# EAGLE library part UBW32_PKG (library SchmalzHausPublic)
UBW32 board from SparkFun (www.sparkfun.com) Designed by Brian Schmalz See http://www.schmalzhaus.com/UBW32 for more information Released under Creative Commons Attribution license.
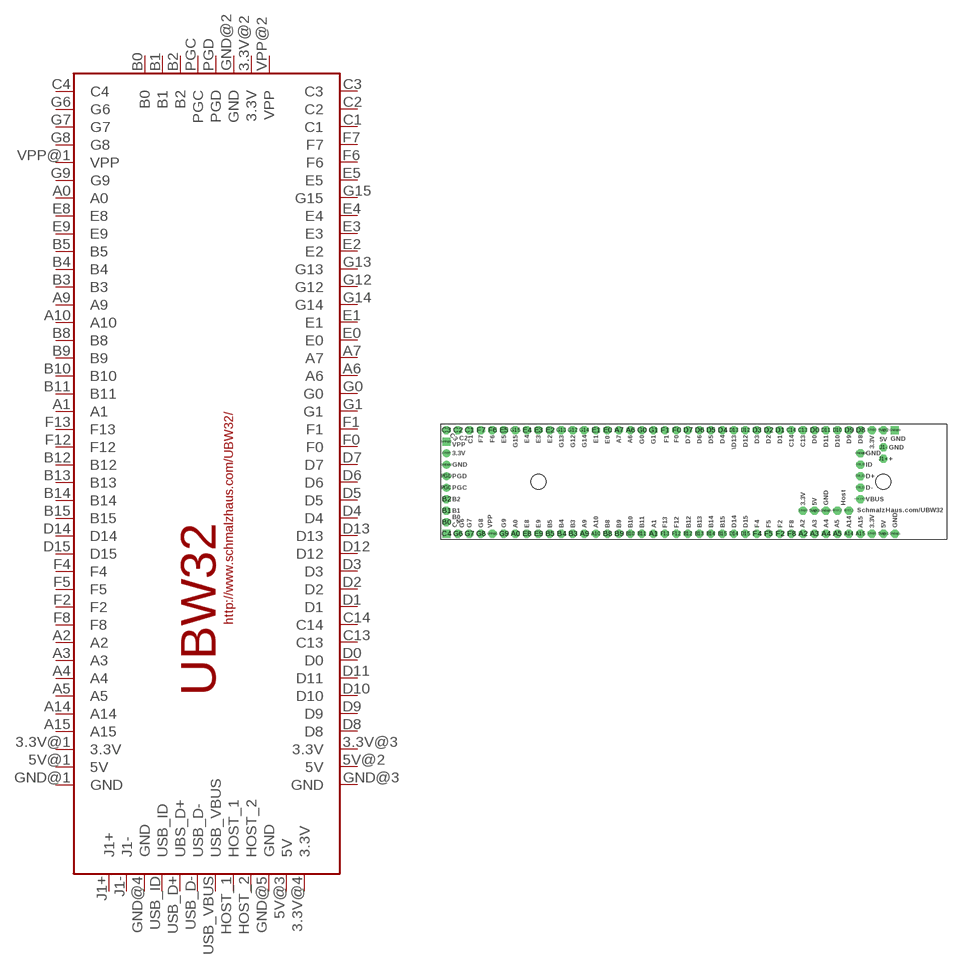
[diagram p0: symbol with the pads of UBW32BOARD; footprint UBW32BOARD]

Designator prefix -

## UBW32_PKG  [UBW32BOARD]
3.3V@1  3.3V
3.3V@2  3.3V
3.3V@3  3.3V
3.3V@4  3.3V
5V@1  5V
5V@2  5V
5V@3  5V
A0  A0
A1  A1
A2  A2
A3  A3
A4  A4
A5  A5
A6  A6
A7  A7
A9  A9
A10  A10
A14  A14
A15  A15
B0  B0
B1  B1
B2  B2
B3  B3
B4  B4
B5  B5
B8  B8
B9  B9
B10  B10
B11  B11
B12  B12
B13  B13
B14  B14
B15  B15
C1  C1
C2  C2
C3  C3
C4  C4
C13  C13
C14  C14
D0  D0
D1  D1
D2  D2
D3  D3
D4  D4
D5  D5
D6  D6
D7  D7
D8  D8
D9  D9
D10  D10
D11  D11
D12  D12
D13  D13
D14  D14
D15  D15
E0  E0
E1  E1
E2  E2
E3  E3
E4  E4
E5  E5
E8  E8
E9  E9
F0  F0
F1  F1
F2  F2
F4  F4
F5  F5
F6  F6
F7  F7
F8  F8
F12  F12
F13  F13
G0  G0
G1  G1
G6  G6
G7  G7
G8  G8
G9  G9
G12  G12
G13  G13
G14  G14
G15  G15
GND@1  GND
GND@2  GND
GND@3  GND
GND@4  GND
GND@5  GND
HOST_1  HOST_1
HOST_2  HOST_2
J1+  J1+
J1-  J1-
PGC  PGC
PGD  PGD
USB_D+  UBS_D+
USB_D-  USB_D-
USB_ID  USB_ID
USB_VBUS  USB_VBUS
VPP@1  VPP
VPP@2  VPP

## Footprint UBW32BOARD (pad centres in mm)
drill 0.8 pad 1.778 octagon: 3.3V@1 95.25,1.27; 3.3V@3 95.25,24.13; 3.3V@4 80.01,6.35; 5V@1 97.79,1.27; 5V@2 97.79,24.13; 5V@3 82.55,6.35; A0 16.51,1.27; A1 46.99,1.27; A2 80.01,1.27; A3 82.55,1.27; A4 85.09,1.27; A5 87.63,1.27; A6 41.91,24.13; A7 39.37,24.13; A9 31.75,1.27; A10 34.29,1.27; A14 90.17,1.27; A15 92.71,1.27; B0 1.27,3.81; B1 1.27,6.35; B2 1.27,8.89; B3 29.21,1.27; B4 26.67,1.27; B5 24.13,1.27; B8 36.83,1.27; B9 39.37,1.27; B10 41.91,1.27; B11 44.45,1.27; B12 54.61,1.27; B13 57.15,1.27; B14 59.69,1.27; B15 62.23,1.27; C1 6.35,24.13; C2 3.81,24.13; C3 1.27,24.13; C13 80.01,24.13; C14 77.47,24.13; D0 82.55,24.13; D1 74.93,24.13; D2 72.39,24.13; D3 69.85,24.13; D4 62.23,24.13; D5 59.69,24.13; D6 57.15,24.13; D7 54.61,24.13; D8 92.71,24.13; D9 90.17,24.13; D10 87.63,24.13; D11 85.09,24.13; D12 67.31,24.13; D13 64.77,24.13; D14 64.77,1.27; D15 67.31,1.27; E0 36.83,24.13; E1 34.29,24.13; E2 24.13,24.13; E3 21.59,24.13; E4 19.05,24.13; E5 13.97,24.13; E8 19.05,1.27; E9 21.59,1.27; F0 52.07,24.13; F1 49.53,24.13; F2 74.93,1.27; F4 69.85,1.27; F5 72.39,1.27; F6 11.43,24.13; F7 8.89,24.13; F8 77.47,1.27; F12 52.07,1.27; F13 49.53,1.27; G0 44.45,24.13; G1 46.99,24.13; G6 3.81,1.27; G7 6.35,1.27; G8 8.89,1.27; G9 13.97,1.27; G12 29.21,24.13; G13 26.67,24.13; G14 31.75,24.13; G15 16.51,24.13; GND@1 100.33,1.27; GND@4 92.71,19.05; GND@5 85.09,6.35; HOST_1 90.17,6.35; HOST_2 87.63,6.35; J1+ 97.79,17.78; J1- 97.79,20.32; USB_D+ 92.71,13.97; USB_D- 92.71,11.43; USB_ID 92.71,16.51; USB_VBUS 92.71,8.89; VPP@1 11.43,1.27
drill 0.8 pad 1.778: 3.3V@2 1.27,19.05; GND@2 1.27,16.51; PGC 1.27,11.43; PGD 1.27,13.97
drill 0.8 pad 1.778 square: C4 1.27,1.27; GND@3 100.33,24.13; VPP@2 1.27,21.59
hole 3.302 at 21.59,12.7
hole 3.302 at 97.79,12.7